# EAGLE library part MAX17262 (library balto)
MAX17262 5.2μA 1-Cell Fuel Gauge with ModelGauge m5 EZand Internal Current Sensing
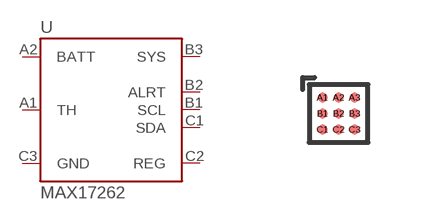
[diagram p65: symbol with the pads of W91G1+2; footprint W91G1+2]

Designator prefix U

## MAX17262  [W91G1+2]
A1  TH
A2  BATT
B1  SCL
B2  ALRT
B3  SYS
C1  SDA
C2  REG
C3  GND

## Footprint W91G1+2 (pad centres in mm)
WLP PKG. 0.4 mm PITCH,W91G1+2
smd 0.247 x 0.247: A1 -0.4,0.4; A2 0,0.4; A3 0.4,0.4; B1 -0.4,0; B2 0,0; B3 0.4,0; C1 -0.4,-0.4; C2 0,-0.4; C3 0.4,-0.4